# Altium footprint library RSX_Fuses.PcbLib: 6 footprints
Each footprint in its own frame and in the unit in brackets; x right, y up, seen from the top. Pads: shape width x height; smd on the part's side, far side on the other; paste and mask are expansions set on the pad; w line width, h text height; cw(c..) or ccw(c..) is an arc to the next point about the centre after c.
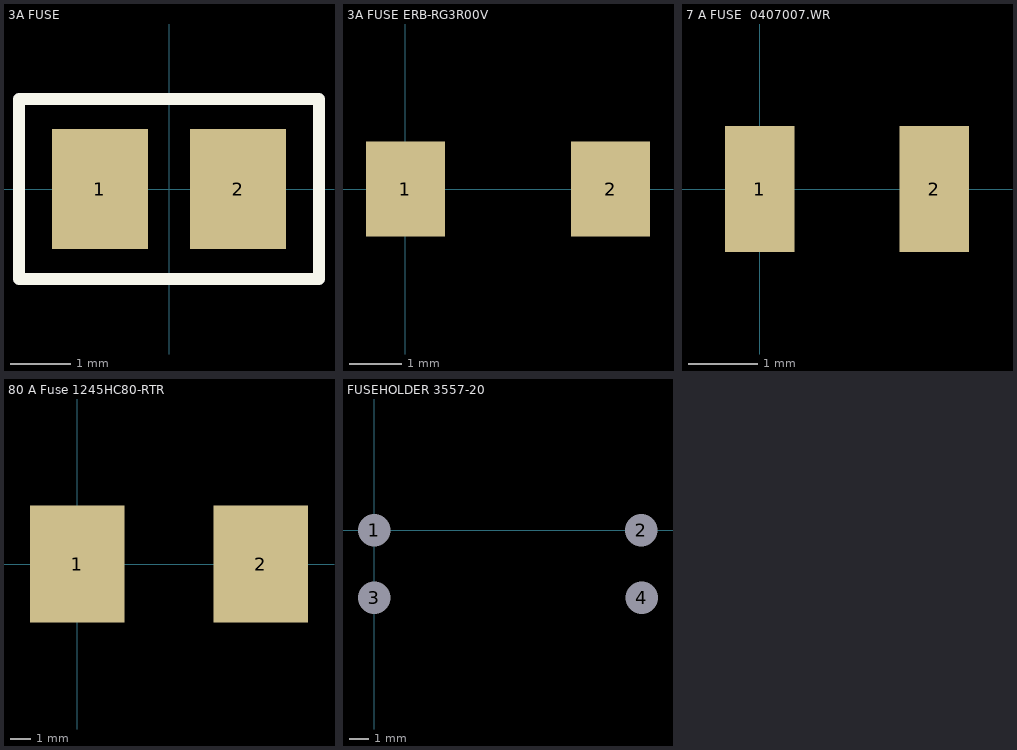
[diagram p0: the footprints below, top view; thin cyan lines are the x and y axes]

## 3A FUSE [mm]
pads (2):
  rect 1.6x2 smd: 1(-1.15,0) 2(1.15,0)
Top Overlay:
  lines w0.2: -2.5,-1.5 -2.5,1.5 2.5,1.5 2.5,-1.5 -2.5,-1.5
3D body "Fuse Littelfuse 1206L150THWR.stp": height 0.82, standoff 0, extent -1.652,-0.815 1.652,0.815

## 3A FUSE ERB-RG3R00V [mm] "SMT 3A 32V FAST BLOW"
height 0.75
pads (2):
  rect 1.5x1.8 smd: 1(0,0) 2(3.9,0)

## 7 A FUSE  0407007.WR [mm] "SMT 8A 24V I2C TIME LAG"
height 0.85
pads (2):
  rect 1x1.8 smd: 1(0,0) 2(2.5,0)

## 80 A Fuse 1245HC80-RTR [mm] "SMT 80A 72V Brick Fuse"
height 4.5
pads (2):
  rect 4.7x5.8 smd: 1(0,0) 2(9.1,0)

## FUSEHOLDER 3557-20 [mm] "THT FUSEHOLDER 10 A 32 V FAST BLOW"
height 16.4
pads (4):
  round 1.524 hole 1.65: 1(0,0) 2(13.47,0) 3(0,-3.4) 4(13.49,-3.4)

## PCBComponent_1 [mm]